# Altium schematic symbol library EL-sense_Battery_Protection.SchLib: 3 symbols
Pins are listed as number, name and electrical type; pins without a type are passive.

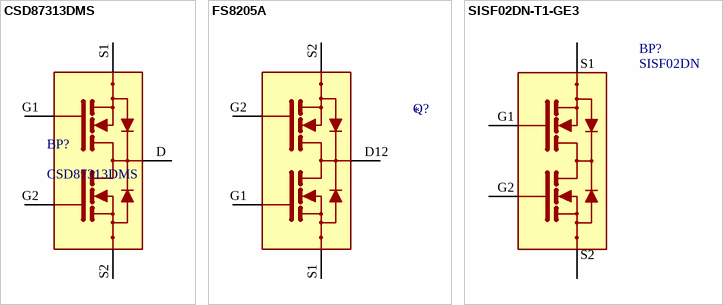
[diagram p0: symbols CSD87313DMS to SISF02DN-T1-GE3]

## CSD87313DMS
designator BP?
Mosfet Array 2 N-Channel (Dual) / Common Drain 30V / Surface Mount 8-WSON (3.3x3.3); Manufacturer: Texas Instruments; Supplier 1: Digi-Key; Supplier Part Number 1: 296-46623-1-ND; Case: 8-WSON
footprint 8-PowerWDFN
pins: D, G1, G2, S1, S2

## FS8205A
designator Q?
Drain Sourse 20V / Gate Sourse  12V / Continuous Drain Current 6A / Pulsed Drain Current 25A; Manufacturer: Fortune Semicon; ComponentLink1Description: Stock; ComponentLink1URL: https://www.chipdip.ru/product1/8004289457; ComponentLink2Description: HelpURL; ComponentLink2URL: https://ic-fortune.com/upload/Download/FS8205A-DS-12_EN.pdf; Case: TSSOP-8; Supplier 1: ChipDip; Supplier Part Number: 8004289457
footprint TSOP-8 (TSOP, 8-Leads, Body 2,93x4,40mm, Pitch 0,65mm, Thermal Pad 2,50x4,00mm, IPC Medium Density)
pins: D12, G1, G2, S1, S2

## SISF02DN-T1-GE3
designator BP?, comment SISF02DN
Mosfet Array 2 N-Channel (Dual) / Common Drain 25V 30.5A (Ta), 60A (Tc) 5.2W (Ta), 69.4W (Tc) / Surface Mount PowerPAK® 1212-8SCD; Manufacturer: Vishay Siliconix; Case: PowerPAK; FET Type: 2 N-Channel (Dual) Common Drain; Supplier 1: Digi-Key; Supplier Part Number 1: SISF02DN-T1-GE3CT-ND; ComponentLink1Description: HelpURL; ComponentLink1URL: https://www.vishay.com/docs/76933/sisf02dn.pdf
footprint PowerPAK
pins: G1, G2, S1, S2